# EAGLE library part TL2575HV-ADJIKTTR (library TL2575HV-ADJIKTTR)
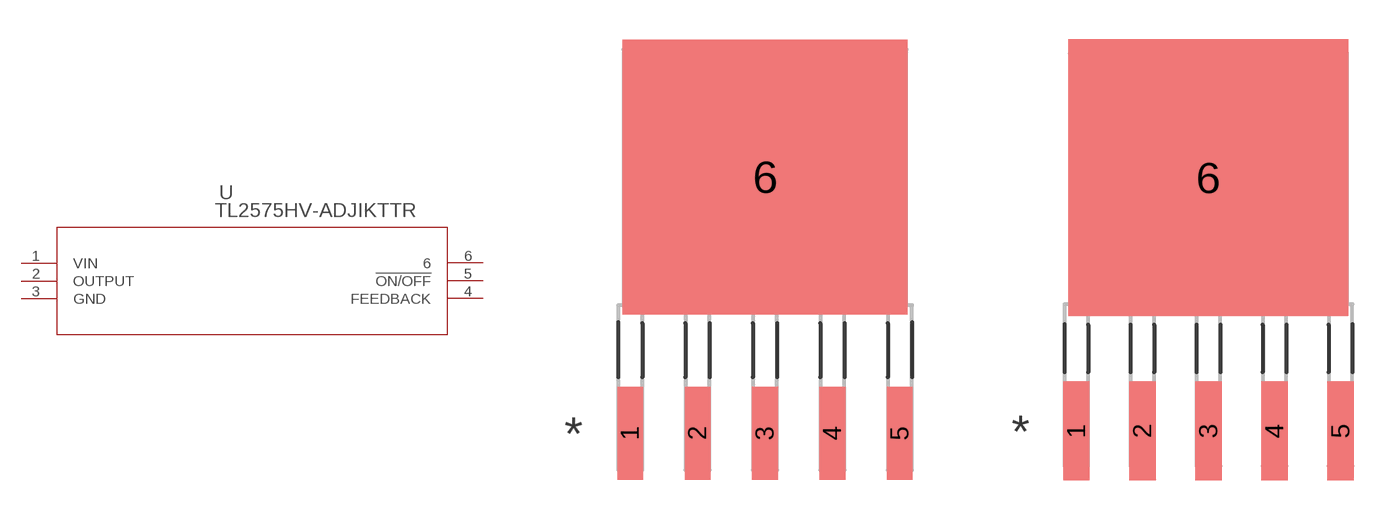
[diagram p0: symbol with the pads of KTT5; footprints KTT5, KTT5-M]

Designator prefix U

## TL2575HV-ADJIKTTR (MANUFACTURER_PART_NUMBER: TL2575HVADJIKTTR; VENDOR: Texas Instruments)  [KTT5]
1  VIN  in
2  OUTPUT  pas
3  GND  pwr
4  FEEDBACK  pas
5  !ON/OFF  pas
6  6  pas

## TL2575HV-ADJIKTTRKTT5-M (MANUFACTURER_PART_NUMBER: TL2575HVADJIKTTR; VENDOR: Texas Instruments)  [KTT5-M]
Pads as for KTT5

## TL2575HV-ADJIKTTRKTT5-L (MANUFACTURER_PART_NUMBER: TL2575HVADJIKTTR; VENDOR: Texas Instruments)  [KTT5-L]
Pads as for KTT5

## Footprint KTT5 (pad centres in mm)
smd 0.965 x 3.505: 1 -5.08,-9.652; 2 -2.54,-9.652; 3 0,-9.652; 4 2.54,-9.652; 5 5.08,-9.652
smd 10.719 x 10.363: 6 0,0

## Footprint KTT5-M (pad centres in mm)
smd 1.016 x 3.81: 1 -5.08,-9.703; 2 -2.54,-9.703; 3 0,-9.703; 4 2.54,-9.703; 5 5.08,-9.703
smd 10.77 x 10.668: 6 0,0.051

## Footprint KTT5-L (pad centres in mm)
smd 0.914 x 3.2: 1 -5.08,-9.601; 2 -2.54,-9.601; 3 0,-9.601; 4 2.54,-9.601; 5 5.08,-9.601
smd 10.668 x 10.058: 6 0,-0.051